# Altium footprint library C 传感器.PcbLib: 26 footprints (part 1 of 2)
Each footprint in its own frame and in the unit in brackets; x right, y up, seen from the top. Pads: shape width x height; smd on the part's side, far side on the other; paste and mask are expansions set on the pad; w line width, h text height; cw(c..) or ccw(c..) is an arc to the next point about the centre after c.
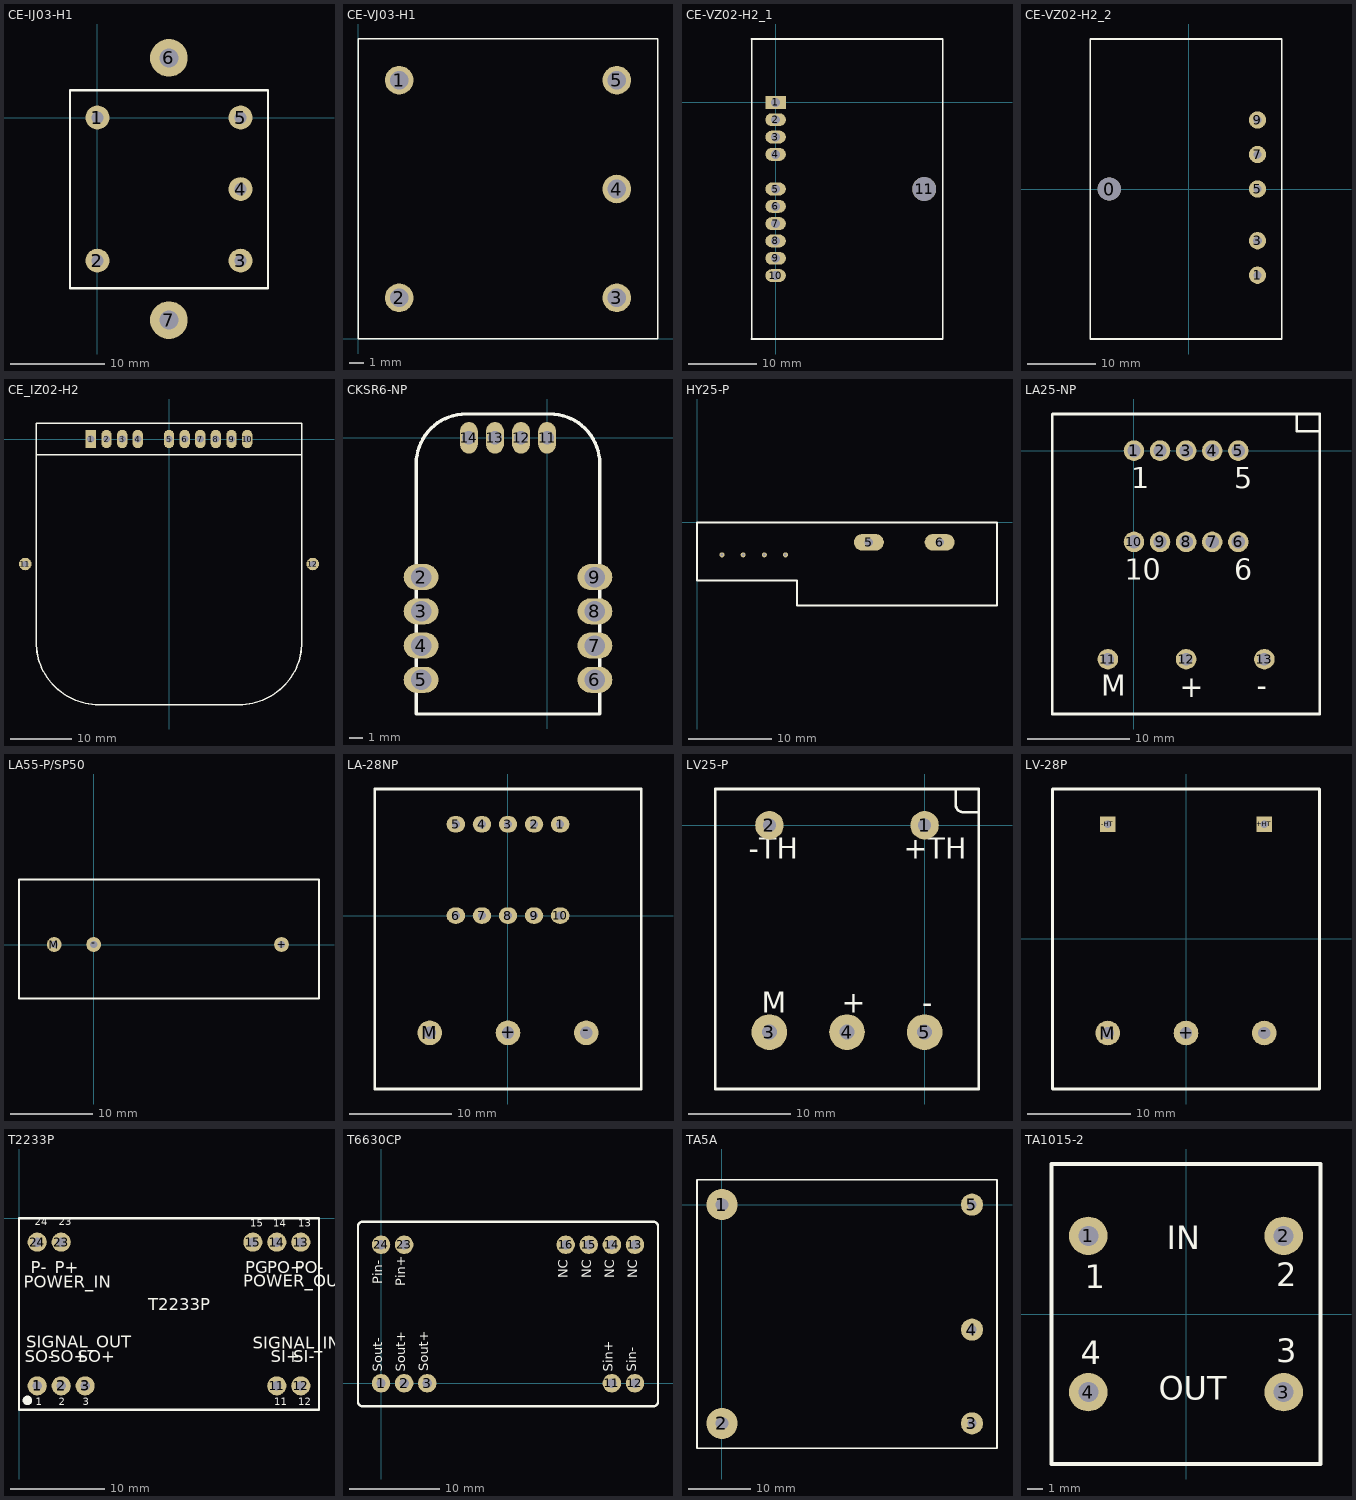
[diagram p0: the footprints below, top view; thin cyan lines are the x and y axes]

## CE-IJ03-H1 [mil] "传感器"
height 220.47
pads (7):
  round 100 hole 52: 1(0,0) 2(0,-600) 3(600,-600) 4(600,-300) 5(600,0)
  round 158 hole 79: 6(299.62,250.4) 7(299.62,-849.6)
Top Overlay:
  lines w10: -115,-715 -115,115 715,115 715,-715 -115,-715

## CE-VJ03-H1 [mm]
pads (5):
  round 2 hole 1.3: 1(2.88,18.12) 2(2.88,2.88) 3(18.12,2.88) 4(18.12,10.5) 5(18.12,18.12)
Top Overlay:
  lines w0.1: 0,0 21,0 21,21 0,21 0,0

## CE-VZ02-H2_1 [mm]
pads (11):
  rect 3x1.9 hole 1.3: 1(0,0)
  oval 3x1.9 hole 1.3: 2(0,-2.54) 3(0,-5.08) 4(0,-7.62) 5(0,-12.7) 6(0,-15.24) 7(0,-17.78) 8(0,-20.32) 9(0,-22.86) 10(0,-25.4)
  round 3.5 hole 3.5: 11(21.8,-12.7)
Top Overlay:
  lines w0.254: -3.556,-34.7 24.5,-34.7 24.5,9.3 -3.556,9.3 ; -3.5,-34.7 -3.5,9.3

## CE-VZ02-H2_2 [mil] "CE-VZ02-32MH"
height 25
pads (6):
  round 133.86 hole 133.86: 0(-460,0)
  round 100 hole 47: 1(400,-500) 5(400,0) 7(400,200) 9(400,400)
  round 100 hole 51.18: 3(400,-300)
Top Overlay:
  lines w10: -570,-870 -570,870 540,870 540,-870 -570,-870

## CE_IZ02-H2 [mm]
pads (12):
  rect 1.7x3 hole 1.2: 1(-12.7,0)
  oval 1.7x3 hole 1.2: 2(-10.16,0) 3(-7.62,0) 4(-5.08,0) 5(0,0) 6(2.54,0) 7(5.08,0) 8(7.62,0) 9(10.16,0) 10(12.7,0)
  round 2.032 hole 1.016: 11(-23.368,-20.32) 12(23.368,-20.32)
Top Overlay:
  lines w0.254: -21.59,-2.54 21.59,-2.54 ; -21.59,-33.02 ccw(c-11.43,-33.02) -11.43,-43.18 11.43,-43.18 ccw(c11.43,-33.02) 21.59,-33.02 21.59,2.54 -21.59,2.54 -21.59,-33.02

## CKSR6-NP [mm]
pads (12):
  oval 2.54x1.9 hole 1.5: 2(-9.207,-10.17) 3(-9.207,-12.67) 4(-9.207,-15.17) 5(-9.207,-17.67) 6(3.492,-17.67) 7(3.492,-15.17) 8(3.492,-12.67) 9(3.492,-10.17)
  oval 1.3x2.3 hole 1: 11(0,0) 12(-1.905,0) 13(-3.81,0) 14(-5.715,0)
Top Overlay:
  lines w0.254: -9.557,-1.89 cw(c-5.927,-1.89) -5.927,1.74 0.213,1.74 cw(c0.213,-1.89) 3.843,-1.89 ; -9.557,-1.62 -9.557,-20.17 ; -2.458,-20.17 -9.557,-20.17 ; 3.843,-1.62 3.843,-20.17 -9.557,-20.17

## HY25-P [mm]
pads (6):
  round 0.6 hole 0.3: 1(3,-3.9) 2(5.54,-3.9) 3(8.08,-3.9) 4(10.62,-3.9)
  oval 3.6x2 hole 1: 5(20.62,-2.4) 6(29.12,-2.4)
Top Overlay:
  lines w0.254: 0,-3.9 0,0 ; 0,0 0,-7 12,-7 12,-10 36,-10 36,0 0,0

## LA25-NP [mm] "电压传感器"
height 15.1
pads (13):
  round 2 hole 1.3: 1(0,0) 2(2.54,0) 3(5.08,0) 4(7.62,0) 5(10.16,0) 6(10.16,-8.89) 7(7.62,-8.89) 8(5.08,-8.89) 9(2.54,-8.89) 10(0,-8.89)
  round 2 hole 1.2: 11(-2.54,-20.32) 12(5.08,-20.32) 13(12.7,-20.32)
Top Overlay:
  lines w0.254: -7.945,-25.65 -7.945,3.55 ; -7.92,-25.654 5.08,-25.654 18.08,-25.654 ; -7.92,3.571 5.08,3.571 18.08,3.571 ; 15.875,3.556 15.875,1.905 18.034,1.905 ; 18.08,-25.65 18.08,-14.041 18.08,3.55
  text "10" at -0.889,-12.573 h2.03
  text "5" at 9.779,-3.683 h2.03
  text "1" at -0.254,-3.683 h2.03
  text "6" at 9.779,-12.573 h2.03
  text "+" at 4.445,-24.003 h2.03
  text "M" at -3.175,-23.876 h2.03
  text "-" at 11.938,-23.876 h2.03
Bottom Overlay:
  text "10" at 0.762,-12.573 h2.03
  text "5" at 11.049,-3.683 h2.03
  text "1" at 0.381,-3.683 h2.03
  text "6" at 10.795,-12.573 h2.03
  text "+" at 5.842,-24.003 h2.03
  text "M" at -1.905,-23.876 h2.03
  text "-" at 13.462,-23.876 h2.03

## LA55-P/SP50 [mm]
pads (3):
  round 1.8 hole 0.9: +(22.86,0) -(0,0) M(-4.8,0)
Top Overlay:
  lines w0.254: -9.08,-1.45 -9.08,7.9 27.42,7.9 27.42,-6.55 -9.08,-6.55 -9.08,0

## LA-28NP [mm]
pads (13):
  oval 1.8x1.6 hole 0.8: 1(5.08,8.89) 2(2.54,8.89) 3(0,8.89) 4(-2.54,8.89) 5(-5.08,8.89) 6(-5.08,0) 7(-2.54,0) 8(0,0) 9(2.54,0) 10(5.08,0)
  round 2.4 hole 1.2: +(0,-11.43) -(7.62,-11.43) M(-7.62,-11.43)
Top Overlay:
  lines w0.254: -13,-16.9 -13,12.33 13,12.33 13,-16.9 -13,-16.9

## LV25-P [mm] "电压传感器500V/10mA"
height 15.1
pads (5):
  round 2.8 hole 1.3: 1(0,0) 2(-15.24,0)
  round 3.5 hole 1.5: 3(-15.24,-20.32) 4(-7.62,-20.32) 5(0,-20.32)
Top Overlay:
  lines w0.254: 3.048,3.556 3.048,2.032 ccw(c3.81,2.032) 3.81,1.27 5.334,1.27 ; -20.574,-25.908 5.334,-25.908 5.334,3.556 -20.574,3.556 -20.574,-25.908
  text "-TH" at -17.272,-3.302 h2.03
  text "+TH" at -2.032,-3.302 h2.03
  text "-" at -0.254,-18.415 h2.03
  text "M" at -16.002,-18.415 h2.03
  text "+" at -8.128,-18.415 h2.03
Bottom Overlay:
  text "+TH" at 2.032,-3.302 h2.03
  text "-TH" at -13.208,-3.302 h2.03
  text "M" at -14.478,-18.415 h2.03
  text "+" at -7.112,-18.415 h2.03
  text "-" at 0.254,-18.415 h2.03

## LV-28P [mm]
pads (5):
  round 2.4 hole 1.2: +(0,-9.16) -(7.62,-9.16) M(-7.62,-9.16)
  rect 1.524x1.524 hole 0.762: +HT(7.62,11.16) -HT(-7.62,11.16)
Top Overlay:
  lines w0.254: -13,-14.61 13,-14.61 ; -13,-14.6 -13,14.6 13,14.6 13,-14.6

## T2233P [mil]
pads (10):
  round 80 hole 39: 1(75.98,-699.61) 2(175.98,-699.61) 3(275.98,-699.61) 11(1075.98,-699.61) 12(1175.98,-699.61) 13(1175.98,-99.61) 14(1075.98,-99.61) 15(975.98,-99.61) 23(175.98,-99.61) 24(75.98,-99.61)
Top Overlay:
  circle w20: c35,-760 r10
  lines w10: 0,-799.21 0,0 1251.97,0 1251.97,-799.21 0,-799.21
  text "13" at 1165,-35 h30
  text "14" at 1060,-35 h30
  text "15" at 965,-35 h30
  text "23" at 165,-30 h30
  text "24" at 65,-30 h30
  text "12" at 1165,-780 h30
  text "11" at 1065,-780 h30
  text "3" at 265,-780 h30
  text "2" at 165,-780 h30
  text "1" at 70,-780 h30
  text "POWER_OUT" at 935,-285 h50
  text "POWER_IN" at 20,-290 h50
  text "PO+" at 1035,-230 h50
  text "PO-" at 1150,-230 h50
  text "PG" at 945,-230 h50
  text "P+" at 150,-230 h50
  text "P-" at 50,-230 h50
  text "SIGNAL_IN" at 975,-545 h50
  text "SI-" at 1145,-600 h50
  text "SI+" at 1050,-600 h50
  text "SIGNAL_OUT" at 30,-540 h50
  text "SO-" at 25,-600 h50
  text "SO+" at 130,-600 h50
  text "SO+" at 245,-600 h50
  text "T2233P" at 540,-385 h50

## T6630CP [mil]
pads (11):
  round 80 hole 40: 1(0,0) 2(100,0) 3(200,0) 11(1000,0) 12(1100,0) 13(1100,600) 14(1000,600) 15(900,600) 16(800,600) 23(100,600) 24(0,600)
Top Overlay:
  lines w10: -100,-80 ccw(c-80,-80) -80,-100 1180,-100 ccw(c1180,-80) 1200,-80 1200,600 1200,680 ccw(c1180,680) 1180,700 -80,700 ccw(c-80,680) -100,680 -100,-80
  text "Pin-" at 20,430 h70
  text "Pin+" at 120,420 h70
  text "NC" at 1125,455 h70
  text "NC" at 1025,455 h70
  text "NC" at 925,455 h70
  text "NC" at 825,455 h70
  text "Sin-" at 1120,50 h70
  text "Sin+" at 1020,50 h70
  text "Sout+" at 220.47,51.18 h70
  text "Sout+" at 120,50 h70
  text "Sout-" at 20,50 h70
Bottom Overlay:
  text "Pin-" at 20,550 h70
  text "Pin+" at 120,550 h70
  text "NC" at 825,545 h70
  text "NC" at 925,545 h70
  text "NC" at 1025,545 h70
  text "NC" at 1125,545 h70
  text "Sin+" at 1020,180 h70
  text "Sin-" at 1120,180 h70
  text "Sout+" at 118.11,220.47 h70
  text "Sout+" at 220.47,220.47 h70
  text "Sout-" at 20,210 h70

## TA5A [mm]
pads (5):
  round 5 hole 2: 1(0,0) 2(0,-35)
  round 3.556 hole 1.499: 3(40,-35) 4(40,-20) 5(40,0)
Top Overlay:
  lines w0.254: -4,-39 44,-39 44,4 -4,4 -4,-39

## TA1015-2 [mm]
pads (4):
  round 2.5 hole 1.3: 1(-6.35,5.08) 2(6.35,5.08) 3(6.35,-5.08) 4(-6.35,-5.08)
Top Overlay:
  lines w0.254: -8.75,-9.75 -8.75,9.75 8.75,9.75 8.75,-9.75 -8.75,-9.75
  text "1" at -6.591,1.68 h1.52
  text "2" at 5.855,1.807 h1.52
  text "4" at -6.845,-3.273 h1.52
  text "3" at 5.855,-3.146 h1.52
  text "IN" at -1.257,4.22 h1.52
  text "OUT" at -1.765,-5.559 h1.52